# Altium schematic symbol library LT1677IS8PBF.SchLib: 1 symbol
Pins are listed as number, name and electrical type; pins without a type are passive.

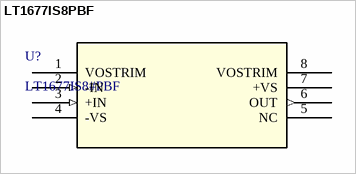
[diagram p0: symbol LT1677IS8PBF]

## LT1677IS8PBF
designator U?, comment LT1677IS8#PBF
Low Noise, Rail-to-Rail Precision Op Amp; Manufacturer_Name: Analog Devices Inc; Copyright: Copyright (C) 2026 Ultra Librarian. All rights reserved.; Manufacturer_Part_Number: LT1677IS8#PBF; RefDes: RefDes; Type: Type
footprint SO-8_S_LIT
pins: 1 VOSTRIM, 2 -IN (in), 3 +IN (in), 4 -VS (power), 5 NC, 6 OUT (out), 7 +VS (power), 8 VOSTRIM